# Altium schematic symbol library SchLib.SchLib: 3 symbols
Pins are listed as number, name and electrical type; pins without a type are passive.

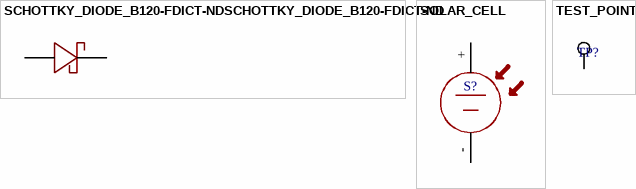
[diagram p0: symbols SCHOTTKY_DIODE_B120-FDICT-NDSCHOTTKY_DIODE_B120-FDICT-ND to TEST_POINT]

## SCHOTTKY_DIODE_B120-FDICT-NDSCHOTTKY_DIODE_B120-FDICT-ND
designator D?
GateName_1: G$1; SymbolName_1: SCHOTTKY_DIODE_B120-FDICT-ND; DeviceName: SCHOTTKY_DIODE_B120-FDICT-ND; LibraryName: Solar_Fadi; DeviceSetName: SCHOTTKY_DIODE_B120-FDICT-ND; Package: SCHOTTKY_DIODE_B120-FDICT-ND
footprint SB_DIODE
pins: NEG, POS

## SOLAR_CELL
designator S?  (value not drawn)
footprint SOLAR_CELL; pin to pad +>POS ->NEG
pins: +, -

## TEST_POINT
designator TP?  (value not drawn)
footprint TEST_POINT; pin to pad 38>PAD
pins: 38